# Altium footprint library SOT.PcbLib: 11 footprints
Each footprint in its own frame and in the unit in brackets; x right, y up, seen from the top. Pads: shape width x height; smd on the part's side, far side on the other; paste and mask are expansions set on the pad; w line width, h text height; cw(c..) or ccw(c..) is an arc to the next point about the centre after c.
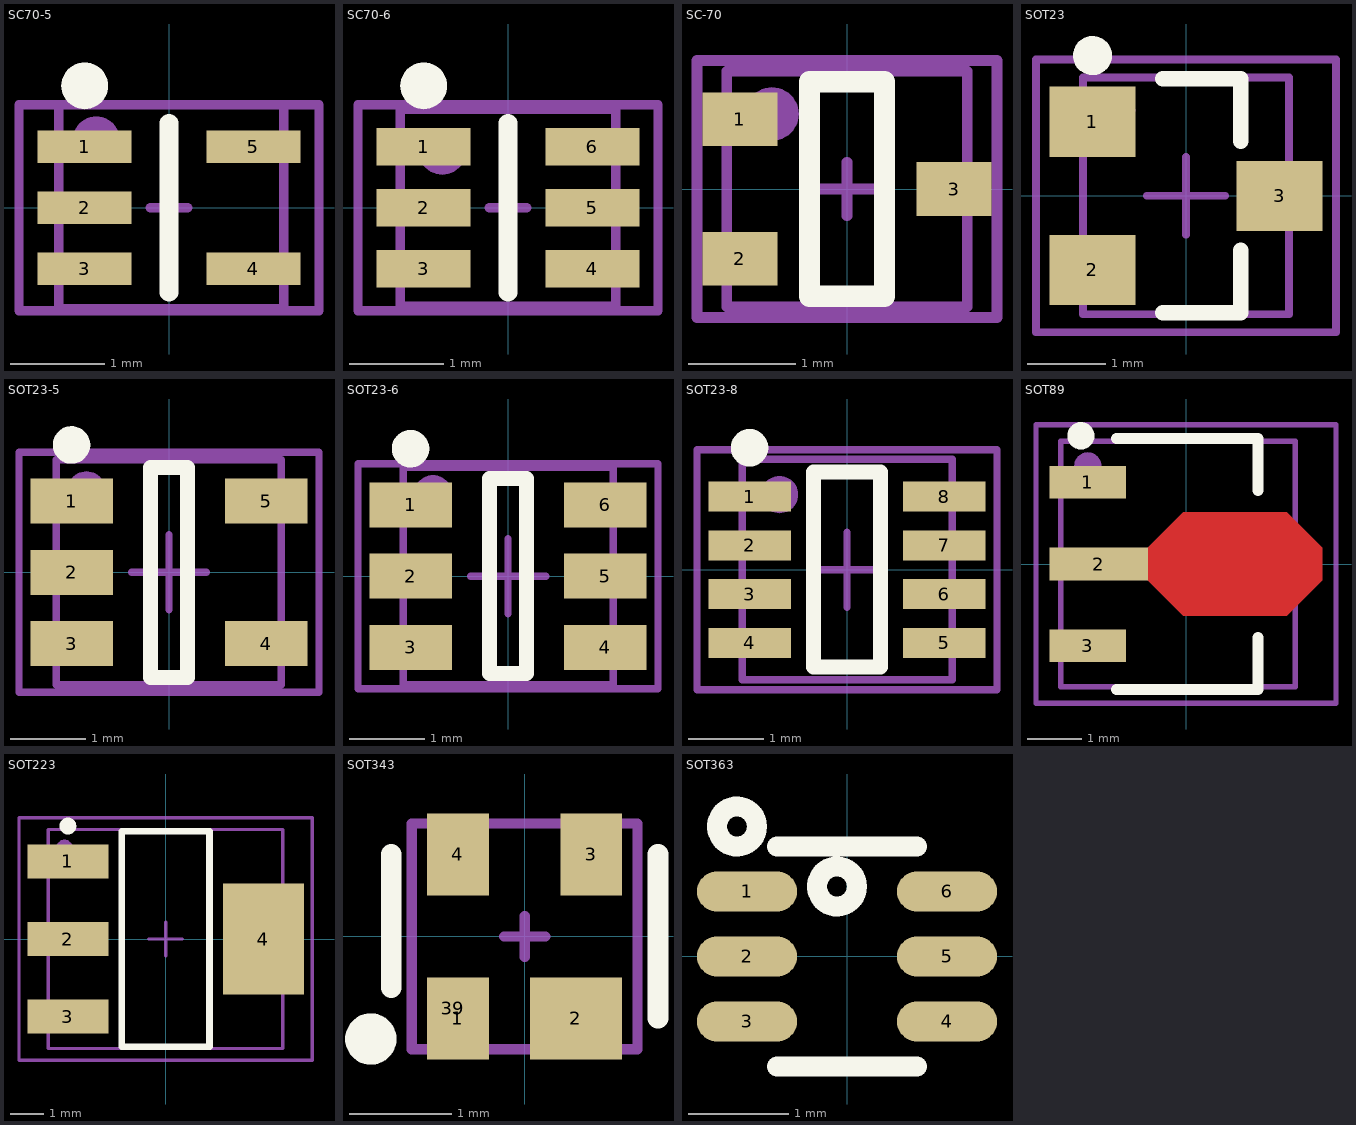
[diagram p0: the footprints below, top view; thin cyan lines are the x and y axes]

## SC70-5 [mm] "pitch 0.95 mm"
height 1.45
pads (7):
  rect 1x0.35 smd: 1(-0.9,0.65) 2(-0.9,0) 3(-0.9,-0.65) 4(0.9,-0.65) 5(0.9,0.65)
  round 0.5 on Top Overlay: ""(-0.9,1.3)
  round 0.5 on Mech1: ""(-0.775,0.725)
Top Overlay:
  lines w0.2: 0,-0.9 0,0.9
Mechanical 1:
  lines w0.1: -1.175,-1.075 1.225,-1.075 1.225,1.1 -1.175,1.1 -1.175,-1.075
Mechanical 15:
  lines w0.1: -0.2,0 0.2,0 ; 0,-0.2 0,0.2 ; -1.6,-1.1 -1.6,1.1 1.6,1.1 1.6,-1.1 -1.6,-1.1
3D body "User Library-SC70-5-MAX.STEP": height 33.39, standoff 32.29, extent -1.175,-1.1 1.225,1.1

## SC70-6 [mm] "SOT23, 5-Leads, Body 2,90x2,80mm, Pitch 0,95mm, IPC Medium Density"
height 1.45
pads (8):
  rect 1x0.4 smd: 1(-0.9,0.65) 2(-0.9,0) 3(-0.9,-0.65) 4(0.9,-0.65) 5(0.9,0) 6(0.9,0.65)
  round 0.5 on Top Overlay: ""(-0.9,1.3)
  round 0.5 on Mech1: ""(-0.7,0.6)
Top Overlay:
  lines w0.2: 0,-0.9 0,0.9
Mechanical 1:
  lines w0.1: -1.15,-1.05 -1.15,1.05 1.15,1.05 1.15,-1.05 -1.15,-1.05
Mechanical 15:
  lines w0.1: -0.2,0 0.2,0 ; 0,-0.2 0,0.2 ; -1.6,-1.1 1.6,-1.1 1.6,1.1 -1.6,1.1 -1.6,-1.1
3D body "User Library-sot363.STEP": height 1, standoff 0, extent -1.15,-1.05 1.15,1.05

## SC-70 [mm]
pads (4):
  rect 0.7x0.5 smd: 1(-1,0.65) 2(-1,-0.65) 3(1,0)
  round 0.5 on Mech1: ""(-0.7,0.7)
Top Overlay:
  lines w0.2: -0.35,-1 -0.35,1 0.35,1 0.35,-1 -0.35,-1
Mechanical 1:
  lines w0.1: -1.123,-1.1 -1.123,1.1 1.123,1.1 1.123,-1.1 -1.123,-1.1
Mechanical 15:
  lines w0.1: -0.25,0 0.25,0 ; 0,-0.25 0,0.25 ; -1.4,-1.2 1.4,-1.2 1.4,1.2 -1.4,1.2 -1.4,-1.2
3D body "User Library-SOT323 (SC70-3)-1.STEP": height 1.1, standoff 0, extent -1.123,-1.1 1.123,1.1

## SOT23 [mm]
height 1.1
pads (4):
  rect 1.1x0.9 smd: 1(-1.2,0.95) 2(-1.2,-0.95) 3(1.2,0)
  round 0.5 on Mech1: ""(-0.9,1.1)
Top Overlay:
  circle w0.25: c-1.2,1.8 r0.125
  lines w0.2: -0.3,-1.5 0.7,-1.5 0.7,-0.7 ; -0.3,1.5 0.7,1.5 0.7,0.7
Mechanical 1:
  lines w0.1: -1.32,-1.52 -1.32,1.52 1.32,1.52 1.32,-1.52 -1.32,-1.52
Mechanical 15:
  lines w0.1: -0.5,0 0.5,0 ; 0,-0.5 0,0.5 ; -1.925,-1.75 1.925,-1.75 1.925,1.75 -1.925,1.75 -1.925,-1.75
3D body "SOT95P237X112-3N.step": height 1.12, standoff 0, extent -1.32,-1.52 1.32,1.52

## SOT23-5 [mm] "pitch 0.95 mm"
height 1.45
pads (6):
  rect 1.1x0.6 smd: 1(-1.3,0.95) 2(-1.3,0) 3(-1.3,-0.95) 4(1.3,-0.95) 5(1.3,0.95)
  round 0.5 on Mech1: ""(-1.1,1.1)
Top Overlay:
  circle w0.25: c-1.3,1.7 r0.125
  lines w0.2: -0.25,-1.4 -0.25,1.4 0.25,1.4 0.25,-1.4 -0.25,-1.4
Mechanical 1:
  lines w0.1: -1.5,-1.5 1.5,-1.5 1.5,1.5 -1.5,1.5 -1.5,-1.5
Mechanical 15:
  lines w0.1: -0.5,0 0.5,0 ; 0,-0.5 0,0.5 ; -2,-1.6 2,-1.6 2,1.6 -2,1.6 -2,-1.6
3D body "SOT23-5-1.step": height 1.3, standoff 0, extent -1.5,-1.5 1.5,1.5

## SOT23-6 [mm] "pitch 0.95 mm"
height 1.1
pads (7):
  rect 1.1x0.6 smd: 1(-1.3,0.95) 2(-1.3,0) 3(-1.3,-0.95) 4(1.3,-0.95) 5(1.3,0) 6(1.3,0.95)
  round 0.5 on Mech1: ""(-1,1.1)
Top Overlay:
  circle w0.25: c-1.3,1.7 r0.125
  lines w0.2: -0.25,-1.3 -0.25,1.3 0.25,1.3 0.25,-1.3 -0.25,-1.3
Mechanical 1:
  lines w0.1: -1.4,-1.45 1.4,-1.45 1.4,1.45 -1.4,1.45 -1.4,-1.45
Mechanical 15:
  lines w0.1: -0.5,0 0.5,0 ; 0,-0.5 0,0.5 ; -2,-1.5 2,-1.5 2,1.5 -2,1.5 -2,-1.5
3D body "User Library-SOT23-6-2.STEP": height 1.45, standoff 0, extent -1.4,-1.45 1.4,1.45

## SOT23-8 [mm] "pitch 0.95 mm"
height 1.45
pads (9):
  rect 1.1x0.4 smd: 1(-1.3,0.975) 2(-1.3,0.325) 3(-1.3,-0.325) 4(-1.3,-0.975) 5(1.3,-0.975) 6(1.3,-0.325) 7(1.3,0.325) 8(1.3,0.975)
  round 0.5 on Mech1: ""(-0.9,1)
Top Overlay:
  circle w0.25: c-1.3,1.625 r0.125
  lines w0.2: -0.45,-1.3 0.45,-1.3 0.45,1.3 -0.45,1.3 -0.45,-1.3
Mechanical 1:
  lines w0.1: -1.4,-1.47 1.4,-1.47 1.4,1.47 -1.4,1.47 -1.4,-1.47
Mechanical 15:
  lines w0.1: -0.5,0 0.5,0 ; 0,-0.5 0,0.5 ; -2,-1.6 2,-1.6 2,1.6 -2,1.6 -2,-1.6
3D body "User Library-sot238.STEP": height 1.2, standoff 0, extent -1.4,-1.495 1.4,1.445

## SOT89 [mm]
height 1.6
pads (4):
  rect 1.4x0.6 smd: 1(-1.8,1.5) 3(-1.8,-1.5)
  rect 1.8x0.6 smd: 2(-1.6,0)
  round 0.5 on Mech1: ""(-1.8,1.8)
Top Layer:
  region: -0.7,0.3 -0.05,0.95 1.85,0.95 2.5,0.3 2.5,-0.3 1.85,-0.95 -0.05,-0.95 -0.7,-0.3
Top Overlay:
  circle w0.25: c-1.927,2.35 r0.125
  lines w0.2: -1.278,-2.3 1.322,-2.3 1.322,-1.35 ; -1.278,2.3 1.322,2.3 1.322,1.35
Mechanical 1:
  lines w0.1: -2.3,-2.25 2,-2.25 2,2.25 -2.3,2.25 -2.3,-2.25
Mechanical 15:
  lines w0.1: -0.477,0 0.523,0 ; 0.022,-0.5 0.022,0.5 ; -2.75,-2.55 -2.75,2.55 2.75,2.55 2.75,-2.55 -2.75,-2.55
3D body "SOT-89.step": height 1.51, standoff 0, extent -2.3,-2.25 2,2.25

## SOT223 [mm] "SOT223, 4-Leads, Body 6,50x7,00mm (avg), Pitch 2,30mm, IPC Medium Density"
height 1.8
pads (5):
  rect 2.4x1 smd: 1(-2.9,2.3) 2(-2.9,0) 3(-2.9,-2.3)
  rect 2.4x3.3 smd: 4(2.9,0)
  round 0.5 on Mech1: ""(-3,2.7)
Top Overlay:
  circle w0.25: c-2.9,3.35 r0.125
  lines w0.2: -1.3,-3.2 1.3,-3.2 1.3,3.2 -1.3,3.2 -1.3,-3.2
Mechanical 1:
  lines w0.1: -3.48,-3.25 -3.48,3.25 3.48,3.25 3.48,-3.25 -3.48,-3.25
Mechanical 15:
  lines w0.1: -0.5,0 0.5,0 ; 0,-0.5 0,0.5 ; -4.35,-3.6 4.35,-3.6 4.35,3.6 -4.35,3.6 -4.35,-3.6
3D body "SOT-223-3.step": height 1.65, standoff -0.03, extent -3.48,-3.25 3.48,3.25

## SOT343 [mm]
height 0.9
pads (5):
  rect 0.6x0.8 smd: 1(-0.65,-0.8) 3(0.65,0.8) 4(-0.65,0.8)
  rect 0.9x0.8 smd: 2(0.5,-0.8)
  round 0.5 on Mech1: 39(-0.7,-0.7)
Top Overlay:
  circle w0.25: c-1.5,-1 r0.125
  lines w0.2: -1.3,-0.5 -1.3,0.8 ; 1.3,-0.8 1.3,0.8
Mechanical 1:
  lines w0.1: -1.1,-1.1 1.1,-1.1 1.1,1.1 -1.1,1.1 -1.1,-1.1
Mechanical 15:
  lines w0.1: -0.2,0 0.2,0 ; 0,-0.2 0,0.2 ; -1.1,-1.1 1.1,-1.1 1.1,1.1 -1.1,1.1 -1.1,-1.1
3D body "User Library-SOT343-1.STEP": height 1, standoff 0, extent -1.1,-1.1 1.1,1.1

## SOT363 [mm] "SOT-363, SC-70-6, DCK, BFS483, SC-88, MO-203AB, DSO65_6_200X130"
height 1
pads (6):
  oval 1x0.4 smd mask+0.075: 1(-1,0.65) 2(-1,0) 3(-1,-0.65) 4(1,-0.65) 5(1,0) 6(1,0.65)
Top Overlay:
  circle w0.2: c-0.1,0.7 r0.2
  circle w0.2: c-1.1,1.3 r0.2
  lines w0.2: -0.7,-1.1 0.7,-1.1 ; -0.7,1.1 0.7,1.1
3D body "User Library-sot363.step": height 1, standoff 0, extent -1.15,-1.05 1.15,1.05